# EAGLE library part 74AC11034 (library 74ac-logic)
Hex non-inverting DRIVER
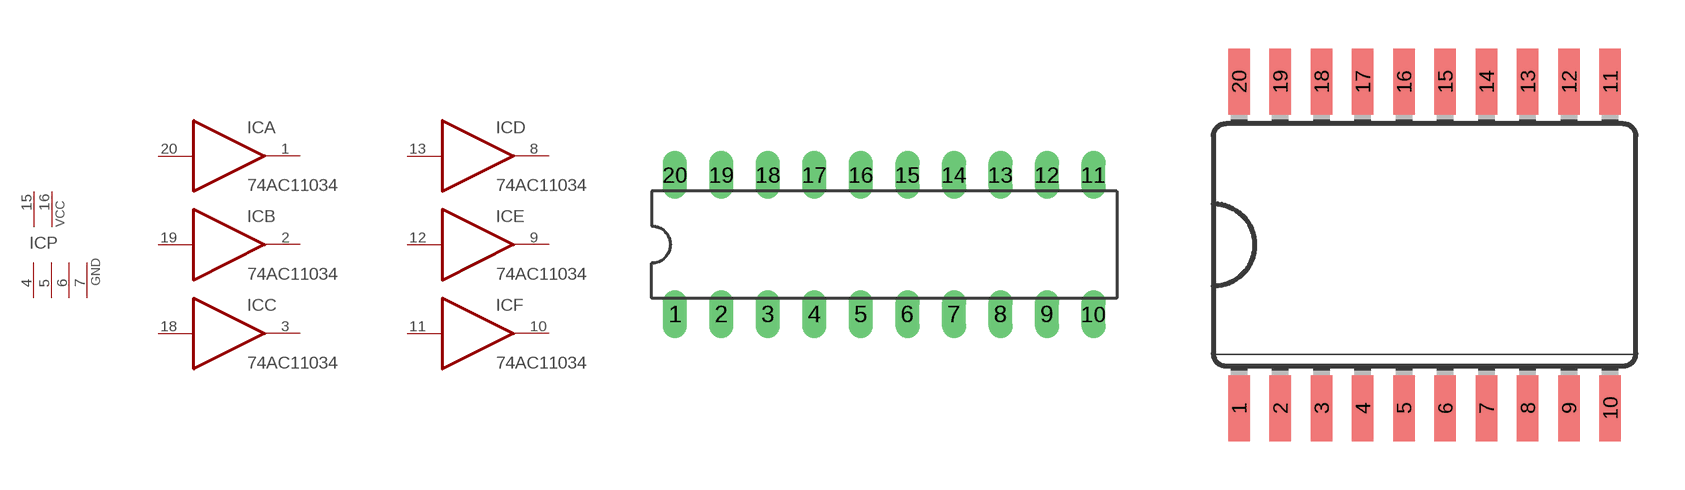
[diagram p11: symbol with the pads of DIL20; footprints DIL20, SO20W]

Designator prefix IC; gates A=7411034 B=7411034 C=7411034 D=7411034 E=7411034 F=7411034 P=2PWR4GND

## 74AC11034  [DIL20]
1  A:O  out
2  B:O  out
3  C:O  out
4  P:GND  pwr
5  P:GND  pwr
6  P:GND  pwr
7  P:GND  pwr
8  D:O  out
9  E:O  out
10  F:O  out
11  F:I  in
12  E:I  in
13  D:I  in
15  P:VCC  pwr
16  P:VCC  pwr
18  C:I  in
19  B:I  in
20  A:I  in

## 74AC11034D  [SO20W]
Pads as for DIL20

## Footprint DIL20 (pad centres in mm)
Dual In Line Package
drill 0.813 long: 1 -11.43,-3.81; 2 -8.89,-3.81; 3 -6.35,-3.81; 4 -3.81,-3.81; 5 -1.27,-3.81; 6 1.27,-3.81; 7 3.81,-3.81; 8 6.35,-3.81; 9 8.89,-3.81; 10 11.43,-3.81; 11 11.43,3.81; 12 8.89,3.81; 13 6.35,3.81; 14 3.81,3.81; 15 1.27,3.81; 16 -1.27,3.81; 17 -3.81,3.81; 18 -6.35,3.81; 19 -8.89,3.81; 20 -11.43,3.81

## Footprint SO20W (pad centres in mm)
Wide Small Outline package 300 mil
smd 0.66 x 2.032: 1 -5.715,-5.029; 2 -4.445,-5.029; 3 -3.175,-5.029; 4 -1.905,-5.029; 5 -0.635,-5.029; 6 0.635,-5.029; 7 1.905,-5.029; 8 3.175,-5.029; 9 4.445,-5.029; 10 5.715,-5.029; 11 5.715,5.029; 12 4.445,5.029; 13 3.175,5.029; 14 1.905,5.029; 15 0.635,5.029; 16 -0.635,5.029; 17 -1.905,5.029; 18 -3.175,5.029; 19 -4.445,5.029; 20 -5.715,5.029